# EAGLE library part BQ24650 (library CougsInSpace)
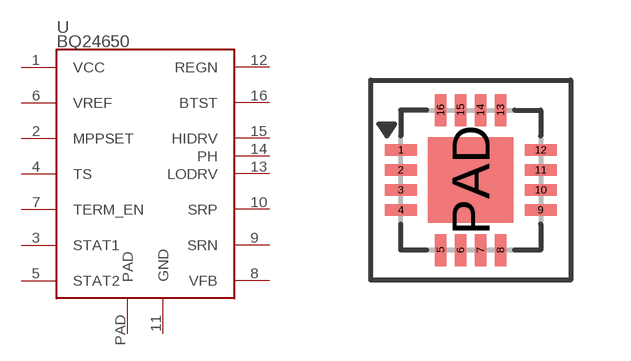
[diagram p9: symbol with the pads of QFN16-3.5X3.5; footprint QFN16-3.5X3.5]

Designator prefix U

## BQ24650  [QFN16-3.5X3.5]
1  VCC  pwr
2  MPPSET
3  STAT1
4  TS
5  STAT2
6  VREF
7  TERM_EN
8  VFB
9  SRN
10  SRP
11  GND  pwr
12  REGN
13  LODRV
14  PH
15  HIDRV
16  BTST
PAD  PAD  pwr

## Footprint QFN16-3.5X3.5 (pad centres in mm)
smd 0.8 x 0.28: 1 -1.75,0.75; 2 -1.75,0.25; 3 -1.75,-0.25; 4 -1.75,-0.75; 9 1.75,-0.75; 10 1.75,-0.25; 11 1.75,0.25; 12 1.75,0.75
smd 0.28 x 0.8: 5 -0.75,-1.75; 6 -0.25,-1.75; 7 0.25,-1.75; 8 0.75,-1.75; 13 0.75,1.75; 14 0.25,1.75; 15 -0.25,1.75; 16 -0.75,1.75
smd 2.14 x 2.14: PAD 0,0